# Altium schematic symbol library IC_TS3L110.SchLib: 1 symbol
Pins are listed as number, name and electrical type; pins without a type are passive.

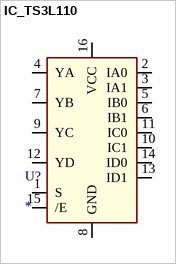
[diagram p0: symbol IC_TS3L110]

## IC_TS3L110
designator U?
pins: 1 S, 2 IA0, 3 IA1, 4 YA, 5 IB0, 6 IB1, 7 YB, 8 GND, 9 YC, 10 IC1, 11 IC0, 12 YD, 13 ID1, 14 ID0, 15 /E, 16 VCC